# Altium footprint library PCB - BUTTONS - TE FSM4JSMA.PCBLIB: 1 footprints
Each footprint in its own frame and in the unit in brackets; x right, y up, seen from the top. Pads: shape width x height; smd on the part's side, far side on the other; paste and mask are expansions set on the pad; w line width, h text height; cw(c..) or ccw(c..) is an arc to the next point about the centre after c.
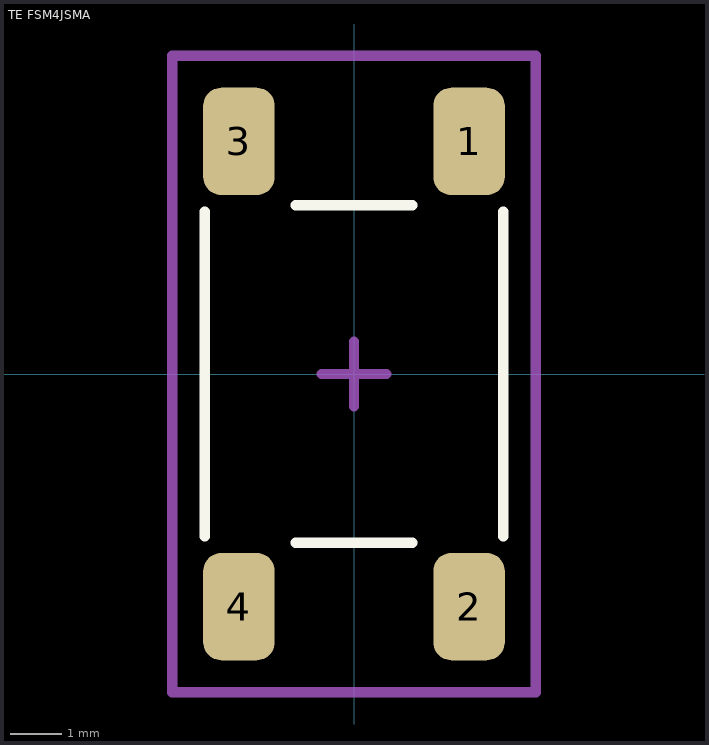
[diagram p0: the footprint, top view; thin cyan lines are the x and y axes]

## TE FSM4JSMA [mm]
height 5.08
pads (4):
  rrect50% 1.4x2.1 smd: 1(2.25,4.55) 2(2.25,-4.55) 3(-2.25,4.55) 4(-2.25,-4.55)
Top Overlay:
  lines w0.2: -2.921,-3.175 -2.921,3.175 ; -1.143,-3.302 1.143,-3.302 ; -1.143,3.302 1.143,3.302 ; 2.921,-3.175 2.921,3.175
Mechanical 15:
  lines w0.2: -3.556,-6.223 -3.556,6.223 3.556,6.223 3.556,-6.223 -3.556,-6.223
Mechanical 2 (Mech9):
  lines w0.2: -0.635,0 0.635,0 ; 0,-0.635 0,0.635
3D body "FSM4JSMA.STEP": height 5.08, standoff 0, extent -3,-5 3,5